# EAGLE library part LM25019MR/NOPB (library rezzonics)
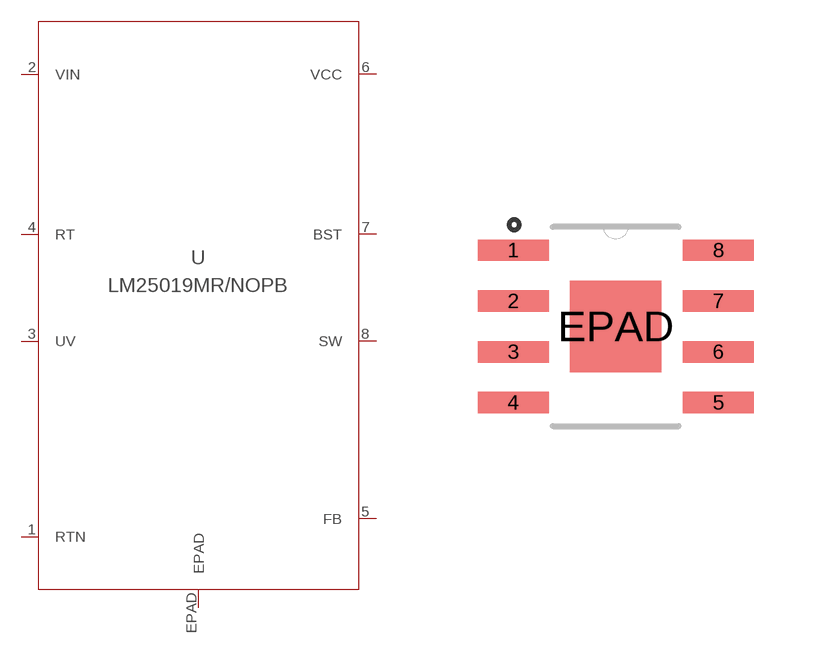
[diagram p4: symbol with the pads of DDA8; footprint DDA8]

Designator prefix U

## LM25019MR/NOPB  [DDA8]
1  RTN  pas
2  VIN  pas
3  UV  pas
4  RT  pas
5  FB  pas
6  VCC  pas
7  BST  pas
8  SW  pas
EPAD  EPAD  pas

## Footprint DDA8 (pad centres in mm)
PSOP-8 DDA (R-PDSO-G8)
smd 1.778 x 0.533: 1 -2.565,1.905; 2 -2.565,0.635; 3 -2.565,-0.635; 4 -2.565,-1.905; 5 2.565,-1.905; 6 2.565,-0.635; 7 2.565,0.635; 8 2.565,1.905
smd 2.286 x 2.286: EPAD 0,0